# EAGLE library part MAX3110 (library ARVP_07-15-13)
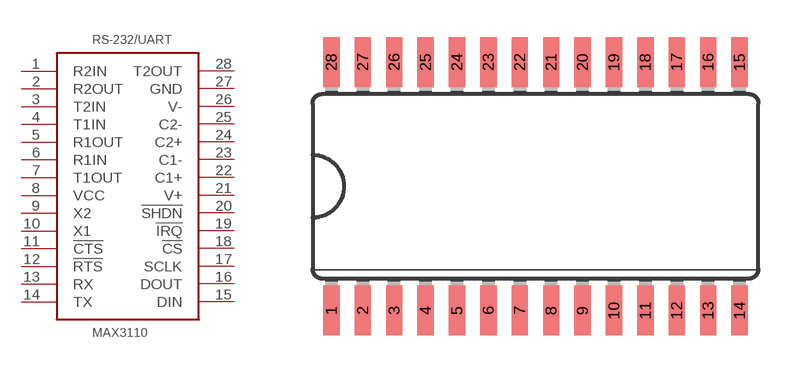
[diagram p4: symbol with the pads of SO28L; footprint SO28L]

Designator prefix -

## MAX3110  [SO28L]
1  R2IN
2  R2OUT
3  T2IN
4  T1IN
5  R1OUT
6  R1IN
7  T1OUT
8  VCC
9  X2
10  X1
11  !CTS
12  !RTS
13  RX
14  TX
15  DIN
16  DOUT
17  SCLK
18  !CS
19  !IRQ
20  !SHDN
21  V+
22  C1+
23  C1-
24  C2+
25  C2-
26  V-
27  GND
28  T2OUT

## Footprint SO28L (pad centres in mm)
Small Outline Package MAX3221-MAX3243.pdf; SO28W
smd 0.66 x 2.032: 1 -8.255,-5.029; 2 -6.985,-5.029; 3 -5.715,-5.029; 4 -4.445,-5.029; 5 -3.175,-5.029; 6 -1.905,-5.029; 7 -0.635,-5.029; 8 0.635,-5.029; 9 1.905,-5.029; 10 3.175,-5.029; 11 4.445,-5.029; 12 5.715,-5.029; 13 6.985,-5.029; 14 8.255,-5.029; 15 8.255,5.029; 16 6.985,5.029; 17 5.715,5.029; 18 4.445,5.029; 19 3.175,5.029; 20 1.905,5.029; 21 0.635,5.029; 22 -0.635,5.029; 23 -1.905,5.029; 24 -3.175,5.029; 25 -4.445,5.029; 26 -5.715,5.029; 27 -6.985,5.029; 28 -8.255,5.029